# EAGLE library part M24512-WMN6P (library M24512-WMN6P)
EEPROM
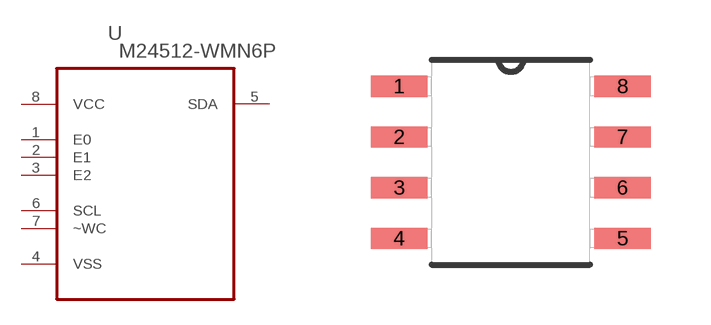
[diagram p0: symbol with the pads of SOIC127P600X175-8N; footprint SOIC127P600X175-8N]

Designator prefix U

## M24512-WMN6P (Availability: Unavailable; Description: M24512 Series 512 Kb _64 K x 8_ 2.5 V SMT Serial I²C Bus EEPROM - SOIC-8N; MF: STMicroelectronics; MP: M24512-WMN6P; Package: SOIC-8 STMicroelectronics; Price: None)  [SOIC127P600X175-8N]
1  E0  in
2  E1  in
3  E2  in
4  VSS  pas
5  SDA
6  SCL  in
7  ~WC  in
8  VCC  pwr

## Footprint SOIC127P600X175-8N (pad centres in mm)
smd 1.422 x 0.533: 1 -2.794,1.905; 2 -2.794,0.635; 3 -2.794,-0.635; 4 -2.794,-1.905; 5 2.794,-1.905; 6 2.794,-0.635; 7 2.794,0.635; 8 2.794,1.905